# Altium footprint library SW_TS02-66-170-BK-260-SCR-D.PcbLib: 1 footprints
Each footprint in its own frame and in the unit in brackets; x right, y up, seen from the top. Pads: shape width x height; smd on the part's side, far side on the other; paste and mask are expansions set on the pad; w line width, h text height; cw(c..) or ccw(c..) is an arc to the next point about the centre after c.
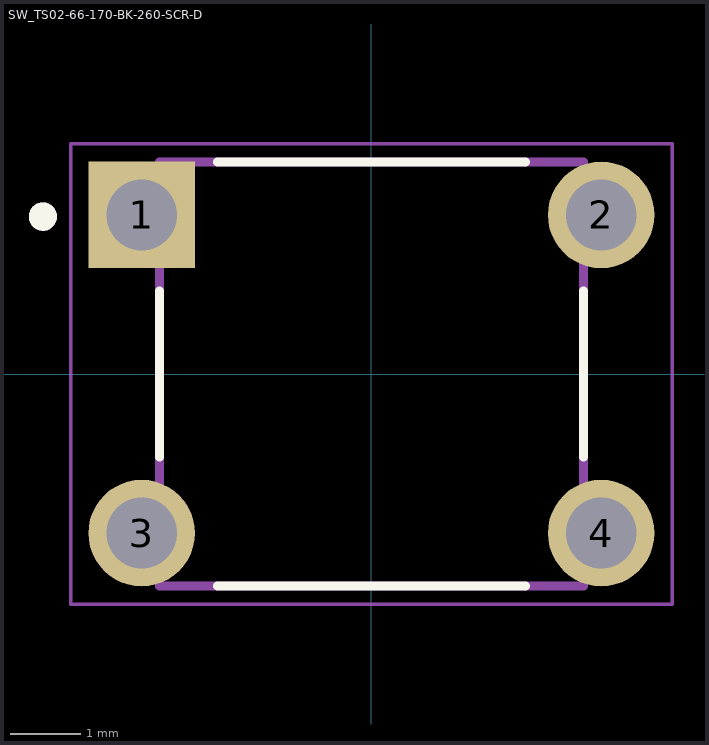
[diagram p0: the footprint, top view; thin cyan lines are the x and y axes]

## SW_TS02-66-170-BK-260-SCR-D [mm]
pads (4):
  rect 1.508x1.508 hole 1: 1(-3.25,2.25)
  round 1.508 hole 1: 2(3.25,2.25) 3(-3.25,-2.25) 4(3.25,-2.25)
Top Overlay:
  circle w0.2: c-4.647,2.226 r0.1
  lines w0.127: -3,-1.176 -3,1.176 ; -2.176,-3 2.176,-3 ; -2.176,3 2.176,3 ; 3,-1.176 3,1.176
Mechanical 13:
  circle w0.2: c-4.647,2.226 r0.1
  lines w0.127: -3,-3 -3,3 3,3 3,-3 -3,-3
Mechanical 15:
  lines w0.05: -4.254,-3.254 4.254,-3.254 4.254,3.254 -4.254,3.254 -4.254,-3.254
3D body "CUI_DEVICES_TS02-66-170-BK-260-SCR-D.step": height 17.01, standoff -1.63, extent -3.6,-3 3.6,3